# Altium schematic symbol library STSPIN32G4-Test-board.SchLib: 3 symbols
Pins are listed as number, name and electrical type; pins without a type are passive.

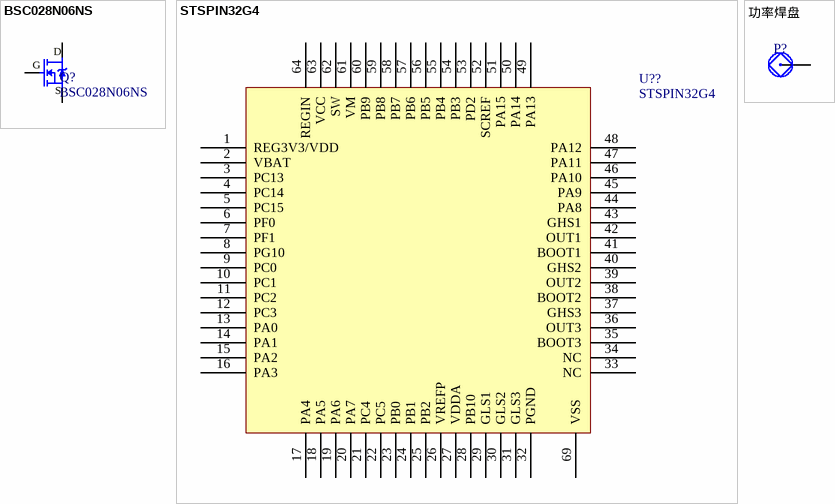
[diagram p0: symbols BSC028N06NS to 功率焊盘]

## BSC028N06NS
designator Q?
N沟场，60V/100A; BOM名称: N沟场效应管; 版权归属: 源创客; 学习资源: www.ooocke.com
footprint BSC028N06NS (TDSON-8(5x6) N沟道,60V,100A,2.8mΩ@10V)
pins: 1 S, 2 G, 3 D

## STSPIN32G4
designator U??
footprint QFN64 9x9_L (64脚，长x宽x高：9x9x1mm，脚距：0.5mm)
pins: 1 REG3V3/VDD, 2 VBAT, 3 PC13, 4 PC14, 5 PC15, 6 PF0, 7 PF1, 8 PG10, 9 PC0, 10 PC1, 11 PC2, 12 PC3, 13 PA0, 14 PA1, 15 PA2, 16 PA3, 17 PA4, 18 PA5, 19 PA6, 20 PA7, 21 PC4, 22 PC5, 23 PB0, 24 PB1, 25 PB2, 26 VREFP, 27 VDDA, 28 PB10, 29 GLS1, 30 GLS2, 31 GLS3, 32 PGND, 33 NC, 34 NC, 35 BOOT3, 36 OUT3, 37 GHS3, 38 BOOT2, 39 OUT2, 40 GHS2, 41 BOOT1, 42 OUT1, 43 GHS1, 44 PA8, 45 PA9, 46 PA10, 47 PA11, 48 PA12, 49 PA13, 50 PA14, 51 PA15, 52 SCREF, 53 PD2, 54 PB3, 55 PB4, 56 PB5, 57 PB6, 58 PB7, 59 PB8, 60 PB9, 61 VM, 62 SW, 63 VCC, 64 REGIN, 69 VSS

## 功率焊盘
designator P?
功率焊盘
footprint 功率焊盘
pins: 1